# EAGLE library part AT29C040 (library AT29C040)
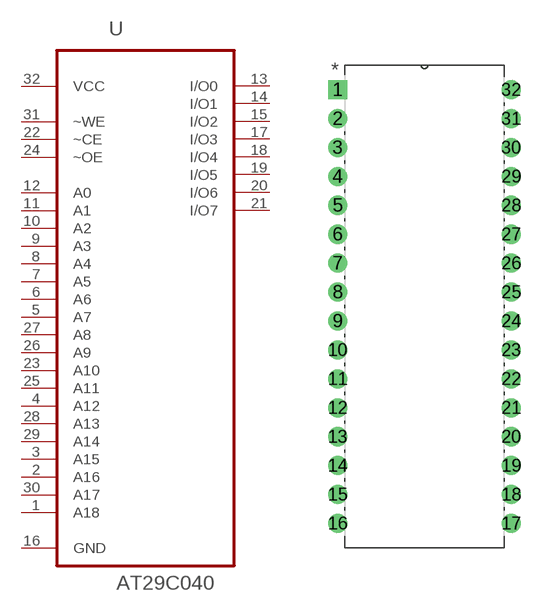
[diagram p0: symbol with the pads of DIP254P1524X482-32; footprint DIP254P1524X482-32]

Designator prefix -

## AT29C040  [DIP254P1524X482-32]
1  A18  in
2  A16  in
3  A15  in
4  A12  in
5  A7  in
6  A6  in
7  A5  in
8  A4  in
9  A3  in
10  A2  in
11  A1  in
12  A0  in
13  I/O0
14  I/O1
15  I/O2
16  GND  pas
17  I/O3
18  I/O4
19  I/O5
20  I/O6
21  I/O7
22  ~CE  in
23  A10  in
24  ~OE  in
25  A11  in
26  A9  in
27  A8  in
28  A13  in
29  A14  in
30  A17  in
31  ~WE  in
32  VCC  pwr

## Footprint DIP254P1524X482-32 (pad centres in mm)
drill 1.118 square: 1 -15.24,33.02
drill 1.118: 2 -15.24,30.48; 3 -15.24,27.94; 4 -15.24,25.4; 5 -15.24,22.86; 6 -15.24,20.32; 7 -15.24,17.78; 8 -15.24,15.24; 9 -15.24,12.7; 10 -15.24,10.16; 11 -15.24,7.62; 12 -15.24,5.08; 13 -15.24,2.54; 14 -15.24,0; 15 -15.24,-2.54; 16 -15.24,-5.08; 17 0,-5.08; 18 0,-2.54; 19 0,0; 20 0,2.54; 21 0,5.08; 22 0,7.62; 23 0,10.16; 24 0,12.7; 25 0,15.24; 26 0,17.78; 27 0,20.32; 28 0,22.86; 29 0,25.4; 30 0,27.94; 31 0,30.48; 32 0,33.02